# Altium schematic symbol library NG_Passive.SchLib: 52 symbols
Pins are listed as number, name and electrical type; pins without a type are passive.

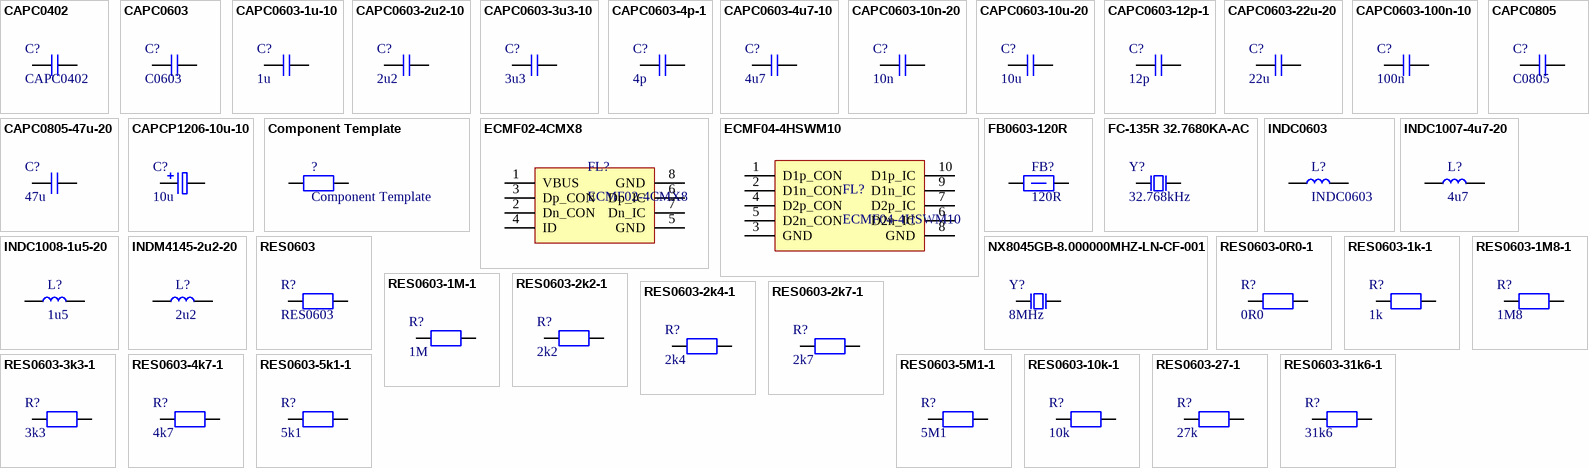
[diagram p0: symbols CAPC0402 to RES0603-31k6-1]

## CAPC0402
designator C?
Ceramic capacitor, VAL?,  VOL?, DIEL?; Checked: Yes; Footprint: 0402; MFR: ?; Supplier: Mouser; SPN: ?; MFRN: ?; Link: *
footprint CAPC0402
pins: 1, 2

## CAPC0603
designator C?, comment C0603
Ceramic capacitor, VAL?,  VOL?, DIEL?; Checked: Yes; Footprint: 0603; MFR: ?; Supplier: Mouser; SPN: ?; MFRN: ?; Link: *
footprint CAPC0603
pins: 1, 2

## CAPC0603-1u-10
designator C?, comment 1u
Ceramic capacitor, 1uF,  50V, X5R; MFR: Murata Electronics; MFRN: GRT188R61H105KE13D; SPN: 81-GRT188R61H105KE3D; Checked: Yes; Footprint: 0603; Supplier: Mouser; Link: https://hr.mouser.com/ProductDetail/Murata-Electronics/GRT188R61H105KE13D?qs=drgMNd%252BkGPNIxxtJByMGCg%3D%3D
footprint CAPC0603
pins: 1, 2

## CAPC0603-2u2-10
designator C?, comment 2u2
Ceramic capacitor, 2.2uF,  25V, X5R; MFR: Samsung Electro-Mechanics; MFRN: CL10A225KA8NNNC; SPN: 187-CL10A225KA8NNNC; Checked: Yes; Footprint: 0603; Supplier: Mouser; Link: https://hr.mouser.com/ProductDetail/Samsung-Electro-Mechanics/CL10A225KA8NNNC?qs=X6jEic%2FHinDB6YiNUmmONA%3D%3D
footprint CAPC0603
pins: 1, 2

## CAPC0603-3u3-10
designator C?, comment 3u3
Ceramic capacitor, 3.3uF,  25V, X5R; MFR: TDK; MFRN: C1608X5R1E335K080AC; SPN: 810-C1608X5R1E335KAC; Checked: Yes; Footprint: 0603; Supplier: Mouser; Link: https://hr.mouser.com/ProductDetail/TDK/C1608X5R1E335K080AC?qs=6JAMGB%252BEdkxFHV26vmpHrw%3D%3D
footprint CAPC0603
pins: 1, 2

## CAPC0603-4p-1
designator C?, comment 4p
Ceramic capacitor, 4pF,  50V, C0G; MFR: Samsung Electro-Mechanics; MFRN: CL10C040CB8NNNC; SPN: 187-CL10C040CB8NNNC; Checked: Yes; Footprint: 0603; Supplier: Mouser; Link: https://hr.mouser.com/ProductDetail/Samsung-Electro-Mechanics/CL10C040CB8NNNC?qs=X6jEic%2FHinCXvSxHicvHqA%3D%3D
footprint CAPC0603
pins: 1, 2

## CAPC0603-4u7-10
designator C?, comment 4u7
Ceramic capacitor, 4.7uF, 25V, X5R; MFR: TDK; MFRN: C1608X5R1E475K080AC; SPN: 810-C1608X5R1E475K; Checked: Yes; Footprint: 0603; Supplier: Mouser; Link: https://hr.mouser.com/ProductDetail/TDK/C1608X5R1E475K080AC?qs=dfay7wIA1uHUGZGvnFtOyQ%3D%3D
footprint CAPC0603
pins: 1, 2

## CAPC0603-10n-20
designator C?, comment 10n
Ceramic capacitor, 10nF,  50V, X7R; MFR: KEMET; MFRN: C0603C103K5RAC7081; SPN: 80-C0603C103K5R7081; Checked: Yes; Footprint: 0603; Supplier: Mouser; Link: https://hr.mouser.com/ProductDetail/KEMET/C0603C103K5RAC7081?qs=sSYV1F9c5cFnAwHdDYKUcw%3D%3D
footprint CAPC0603
pins: 1, 2

## CAPC0603-10u-20
designator C?, comment 10u
Ceramic capacitor, 10uF,  25V, X5R; MFR: TAIYO YUDEN; MFRN: TMK107BBJ106MA-T; SPN: 963-TMK107BBJ106MA-T; Checked: Yes; Footprint: 0603; Supplier: Mouser; Link: https://hr.mouser.com/ProductDetail/TAIYO-YUDEN/TMK107BBJ106MA-T?qs=lkMpTOwszhf2a50BCYsq8A%3D%3D
footprint CAPC0603
pins: 1, 2

## CAPC0603-12p-1
designator C?, comment 12p
Ceramic capacitor, 12pF,  100V, C0G; MFR: Murata Electronics; MFRN: GCM1885C2A120FA16D; SPN: 81-GCM1885C2A120FA6D; Checked: Yes; Footprint: 0603; Supplier: Mouser; Link: https://hr.mouser.com/ProductDetail/Murata-Electronics/GCM1885C2A120FA16D?qs=QzBtWTOodeUaZCEup3XR9g%3D%3D
footprint CAPC0603
pins: 1, 2

## CAPC0603-22u-20
designator C?, comment 22u
Ceramic capacitor, 22uF,  10V, X5R; MFR: Samsung Electro-Mechanics; MFRN: CL10A226MP8NUNE; SPN: 187-CL10A226MP8NUNE; Checked: Yes; Footprint: 0603; Supplier: Mouser; Link: https://hr.mouser.com/ProductDetail/Samsung-Electro-Mechanics/CL10A226MP8NUNE?qs=gRKWieUq2Hb5O0PTfRKzDQ%3D%3D
footprint CAPC0603
pins: 1, 2

## CAPC0603-100n-10
designator C?, comment 100n
Ceramic capacitor, 100nF,  50V, X7R; MFR: KEMET; MFRN: C0603C104K5RACAUTO; SPN: 80-C0603C104K5RAUTO; Checked: Yes; Footprint: 0603; Supplier: Mouser; Link: https://hr.mouser.com/ProductDetail/KEMET/C0603C104K5RACAUTO?qs=8xX%252BF9%252BWV6EZsgKw9G0PqQ%3D%3D
footprint CAPC0603
pins: 1, 2

## CAPC0805
designator C?, comment C0805
Ceramic capacitor, VAL?,  VOL?, DIEL?; Checked: Yes; Footprint: 0805; MFR: ?; Supplier: Mouser; SPN: ?; MFRN: ?; Link: *
footprint CAPC0805
pins: 1, 2

## CAPC0805-47u-20
designator C?, comment 47u
Ceramic capacitor, 47uF,  10V, X5R; MFR: Murata Electronics; MFRN: GRM21BR61A476ME15L; SPN: 81-GRM21BR61A476ME5L; Checked: Yes; Footprint: 0805; Supplier: Mouser; Link: https://hr.mouser.com/ProductDetail/Murata-Electronics/GRM21BR61A476ME15L?qs=hNud%2FORuBR2%2FEB7WUpdltg%3D%3D
footprint CAPC0805
pins: 1, 2

## CAPCP1206-10u-10
designator C?, comment 10u
Tantalum capacitor, 10uF,  10V, 3.8Ohm; MFR: KEMET; MFRN: T491A106K010AT; SPN: 80-T491A106K010; Checked: Yes; Footprint: 1206; Supplier: Mouser; Link: https://hr.mouser.com/ProductDetail/KEMET/T491A106K010AT?qs=VCf6WUQjPgE2CESwzh%252BRVg%3D%3D
footprint CAPCP1206 (Generic description)
pins: 1, 2

## Component Template
designator ?
Generic Description; Checked: No; Footprint: ?; MFR: ?; Supplier: Mouser; SPN: ?; MFRN: ?; Link: *
pins: 1, 2

## ECMF02-4CMX8
designator FL?
Common mode filter with ESD protection for USB 2.0 interface; MFR: STMicroelectronics; SPN: 497-13420-2-ND; Checked: No; Footprint: 8-UFDFN; Supplier: Mouser; MFRN: ECMF02-4CMX8; Link: *
footprint QFN50P115X245X-8 (Quad Flat No-lead, 50 mm pitch, 115 mm W, 245 mm L, 8 leads)
pins: 1 VBUS (power), 2 Dn_CON, 3 Dp_CON, 4 ID, 5 GND (power), 6 Dp_IC, 7 Dn_IC, 8 GND (power)

## ECMF04-4HSWM10
designator FL?
Common mode filter with ESD protection for high speed serial interface; MFR: STMicroelectronics; SPN: 497-14992-2-ND; Checked: No; Footprint: 10-UFDFN; Supplier: Mouser; MFRN: ECMF04-4HSWM10; Link: *
footprint QFN50P135X260X-10 (Quad Flat No-lead, 50 mm pitch, 135 mm W, 260 mm L, 10 leads)
pins: 1 D1p_CON, 2 D1n_CON, 3 GND (power), 4 D2p_CON, 5 D2n_CON, 6 D2n_IC, 7 D2p_IC, 8 GND (power), 9 D1n_IC, 10 D1p_IC

## FB0603-120R
designator FB?, comment 120R
Ferrite bead, 120R@100MHz; MFR: TDK Corporation; MFRN: MMZ1608D121CTDH5; SPN: 445-MMZ1608D121CTDH5TR-ND; Checked: Yes; Footprint: 0603; Supplier: Mouser; Link: https://hr.mouser.com/ProductDetail/TDK/MMZ1608D121CTDH5?qs=w5GL7EWTenmYwq5el8mPmQ%3D%3D
footprint FBC0603
pins: 1, 2

## FC-135R 32.7680KA-AC
designator Y?, comment 32.768kHz
Crystal, 32.768Hz, 9pF, 50kOhms; MFR: Seiko Epson; MFRN: FC-135R 32.7680KA-AC; SPN: 732-5R32.7680KA-AC; Checked: Yes; Footprint: SMD3215-2P; Supplier: Mouser; Link: https://hr.mouser.com/ProductDetail/Epson-Timing/FC-135R-32.7680KA-AC?qs=f9yNj16SXrKSyqlBEaNvJg%3D%3D
footprint XTAL320X150X80 (Generic description)
pins: 1, 2

## INDC0603
designator L?
Inductor chip 0603; Checked: Yes; Footprint: 0603; MFR: ?; Supplier: Mouser; SPN: ?; MFRN: ?; Link: *
pins: 1, 2

## INDC1007-4u7-20
designator L?, comment 4u7
Inductor 4.7uH, 680mA, ±20%, 260mOhm; MFR: TAIYO YUDEN; MFRN: CBC2518T4R7M; SPN: 963-CBC2518T4R7M; Checked: Yes; Footprint: 1008; Supplier: Mouser; Link: https://hr.mouser.com/ProductDetail/TAIYO-YUDEN/CBC2518T4R7M?qs=sGAEpiMZZMv126LJFLh8y8CHgMb6WLnpfdgzSjZMuh8%3D
footprint INDC1007
pins: 1, 2

## INDC1008-1u5-20
designator L?, comment 1u5
Inductor 1.5uH, 3.3A, ±20%, 60mOhm; MFR: TDK; MFRN: TMS252012ALM-1R5MTAA; SPN: 810-TMS252012ALM1R5M; Checked: Yes; Footprint: 1008; Supplier: Mouser; Link: https://hr.mouser.com/ProductDetail/TDK/TMS252012ALM-1R5MTAA?qs=7MVldsJ5UayRLHp7atJZag%3D%3D
footprint INDC1008
pins: 1, 2

## INDM4145-2u2-20
designator L?, comment 2u2
Inductor 2.2uH, 4A, 61mOhm; MFR: Bourns Inc.; MFRN: SRP4020TA-2R2M; SPN: 652-SRP4020CC-2R2M; Checked: Yes; Footprint: 1816; Supplier: Mouser; Link: https://hr.mouser.com/ProductDetail/Bourns/SRP4020CC-2R2M?qs=1Kr7Jg1SGW%2Fzqd%2F%2FaCZ%2Fhg%3D%3D
footprint INDM4145X18
pins: 1, 2

## NX8045GB-8.000000MHZ-LN-CF-001
designator Y?, comment 8MHz
Crystal, 8MHz, 8pF, 200Ohms; MFR: NDK; MFRN: NX8045GB-8.000000MHZ-LN-CF-001; SPN: 344-NX8045GB8MLNCF1; Checked: Yes; Footprint: SMD8045-2P; Supplier: Mouser; Link: https://hr.mouser.com/ProductDetail/NDK/NX8045GB-8.000000MHZ-LN-CF-001?qs=55YtniHzbhBUNifQQes5gA%3D%3D
footprint XTAL800X450X180 (Generic description)
pins: 1, 2

## RES0603
designator R?
Thick film resistor, VAL?, POW?; Checked: Yes; Footprint: 0603; MFR: ?; Supplier: Mouser; SPN: ?; MFRN: ?; Link: *
footprint RESC0603 (Generic description)
pins: 1, 2

## RES0603-0R0-1
designator R?, comment 0R0
Thick film resistor, 0Ohms, 100mW; MFR: YAGEO; MFRN: RC0603FR-070RL; SPN: 603-RC0603FR-070RL; Checked: Yes; Footprint: 0603; Supplier: Mouser; Link: https://hr.mouser.com/ProductDetail/YAGEO/RC0603FR-070RL?qs=0yPvnVz5%2FmpDQv43TwvCfw%3D%3D
footprint RESC0603 (Generic description)
pins: 1, 2

## RES0603-1k-1
designator R?, comment 1k
Thick film resistor, 1k, 100mW; MFR: YAGEO; MFRN: RC0603FR-071KL; SPN: 603-RC0603FR-071KL; Checked: Yes; Footprint: 0603; Supplier: Mouser; Link: https://hr.mouser.com/ProductDetail/YAGEO/RC0603FR-071KL?qs=VU8sRB4EgwApHsk4rF%2F3zg%3D%3D
footprint RESC0603 (Generic description)
pins: 1, 2

## RES0603-1M8-1
designator R?, comment 1M8
Thick film resistor, 1.8MOhms, 100mW; MFR: Vishay / Dale; MFRN: CRCW06031M80FKEAC; SPN: 71-CRCW06031M80FKEAC; Checked: Yes; Footprint: 0603; Supplier: Mouser; Link: https://hr.mouser.com/ProductDetail/Vishay-Dale/CRCW06031M80FKEAC?qs=sGAEpiMZZMtlubZbdhIBIEVnJA25NYWZ%2FYivauIjUrk%3D
footprint RESC0603 (Generic description)
pins: 1, 2

## RES0603-1M-1
designator R?, comment 1M
Thick film resistor, 1MOhms, 100mW; MFR: YAGEO; MFRN: RC0603FR-071ML; SPN: 603-RC0603FR-071ML; Checked: Yes; Footprint: 0603; Supplier: Mouser; Link: https://hr.mouser.com/ProductDetail/YAGEO/RC0603FR-071ML?qs=VU8sRB4EgwDPceeQKB324w%3D%3D
footprint RESC0603 (Generic description)
pins: 1, 2

## RES0603-2k2-1
designator R?, comment 2k2
Thick film resistor, 2.2kOhms, 100mW; MFR: YAGEO; MFRN: RC0603FR-072K2L; SPN: 603-RC0603FR-072K2L; Checked: Yes; Footprint: 0603; Supplier: Mouser; Link: https://hr.mouser.com/ProductDetail/YAGEO/RC0603FR-072K2L?qs=diQw95jMAeOQmNpe2MM%252BPw%3D%3D
footprint RESC0603 (Generic description)
pins: 1, 2

## RES0603-2k4-1
designator R?, comment 2k4
Thick film resistor, 2.4kOhms, 100mW; MFR: YAGEO; MFRN: RC0603FR-072K4L; SPN: 603-RC0603FR-072K4L; Checked: Yes; Footprint: 0603; Supplier: Mouser; Link: https://hr.mouser.com/ProductDetail/YAGEO/RC0603FR-072K4L?qs=0yPvnVz5%2FmrC6p3yyBfpHw%3D%3D
footprint RESC0603 (Generic description)
pins: 1, 2

## RES0603-2k7-1
designator R?, comment 2k7
Thick film resistor, 2.7kOhms, 100mW; MFR: YAGEO; MFRN: RC0603FR-102K7L; SPN: 603-RC0603FR-102K7L; Checked: Yes; Footprint: 0603; Supplier: Mouser; Link: https://hr.mouser.com/ProductDetail/YAGEO/RC0603FR-102K7L?qs=sGAEpiMZZMtlubZbdhIBIL6aF40j1MfhXpbKBRYtUAI%3D
footprint RESC0603 (Generic description)
pins: 1, 2

## RES0603-3k3-1
designator R?, comment 3k3
Thick film resistor, 3.3kOhms, 100mW; MFR: YAGEO; MFRN: AC0603FR-073K3L; SPN: 603-AC0603FR-073K3L; Checked: Yes; Footprint: 0603; Supplier: Mouser; Link: https://hr.mouser.com/ProductDetail/YAGEO/AC0603FR-073K3L?qs=sGAEpiMZZMtlubZbdhIBINBo7nw4llFtjb1EiDJ1uvY%3D
footprint RESC0603 (Generic description)
pins: 1, 2

## RES0603-4k7-1
designator R?, comment 4k7
Thick film resistor, 4.7kOhms, 100mW; MFR: YAGEO; MFRN: RT0603FRE074K7L; SPN: 603-RT0603FRE074K7L; Checked: Yes; Footprint: 0603; Supplier: Mouser; Link: https://hr.mouser.com/ProductDetail/YAGEO/RT0603FRE074K7L?qs=sGAEpiMZZMtlubZbdhIBIE441mth93wmDPmA76MVhFA%3D
footprint RESC0603 (Generic description)
pins: 1, 2

## RES0603-5k1-1
designator R?, comment 5k1
Thick film resistor, 5.1kOhms, 100mW; MFR: YAGEO; MFRN: RC0603FR-075K1L; SPN: 603-RC0603FR-075K1L; Checked: Yes; Footprint: 0603; Supplier: Mouser; Link: https://hr.mouser.com/ProductDetail/YAGEO/RC0603FR-075K1L?qs=gt6vzsuosg2jUUwxnI2PJQ%3D%3D
footprint RESC0603 (Generic description)
pins: 1, 2

## RES0603-5M1-1
designator R?, comment 5M1
Thick film resistor, 5.1MOhms, 100mW; MFR: YAGEO; MFRN: RC0603FR-075M1L; SPN: 603-RC0603FR-075M1L; Checked: Yes; Footprint: 0603; Supplier: Mouser; Link: https://hr.mouser.com/ProductDetail/YAGEO/RC0603FR-075M1L?qs=EiqXWrxQq62YzjenV3bCvA%3D%3D
footprint RESC0603 (Generic description)
pins: 1, 2

## RES0603-10k-1
designator R?, comment 10k
Thick film resistor, 10kOhm, 100mW; MFR: YAGEO; MFRN: RC0603FR-1010KL; SPN: 603-RC0603FR-1010KL; Checked: Yes; Footprint: 0603; Supplier: Mouser; Link: https://hr.mouser.com/ProductDetail/YAGEO/RC0603FR-1010KL?qs=sGAEpiMZZMtlubZbdhIBIHvQf5egq9lvqRHakiGwa0o%3D
footprint RESC0603 (Generic description)
pins: 1, 2

## RES0603-27-1
designator R?, comment 27k
Thick film resistor, 27kOhm, 100mW; MFR: YAGEO; MFRN: RC0603FR-0727KL; SPN: 603-RC0603FR-0727KL; Checked: Yes; Footprint: 0603; Supplier: Mouser; Link: https://hr.mouser.com/ProductDetail/YAGEO/RC0603FR-0727KL?qs=HhmREhdzqomUcJ5okwKG7g%3D%3D
footprint RESC0603 (Generic description)
pins: 1, 2

## RES0603-31k6-1
designator R?, comment 31k6
Thick film resistor, 31.6kOhm, 100mW; MFR: KOA Speer; MFRN: RK73H1JTTDD3162F; SPN: 660-RK73H1JTDD3162F; Checked: Yes; Footprint: 0603; Supplier: Mouser; Link: https://hr.mouser.com/ProductDetail/KOA-Speer/RK73H1JTTDD3162F?qs=sGAEpiMZZMtlubZbdhIBIEH8%252BU9HXMuiz5ZToc53nis%3D
footprint RESC0603 (Generic description)
pins: 1, 2

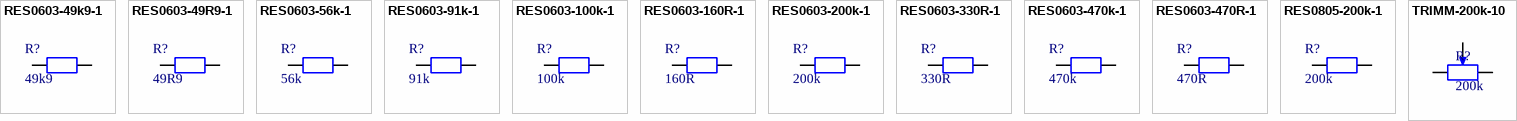
[diagram p1: symbols RES0603-49k9-1 to TRIMM-200k-10]

## RES0603-49k9-1
designator R?, comment 49k9
Thick film resistor, 49.9kOhms, 100mW; MFR: YAGEO; MFRN: RC0603FR-0749K9L; SPN: 603-RC0603FR-0749K9L; Checked: Yes; Footprint: 0603; Supplier: Mouser; Link: https://hr.mouser.com/ProductDetail/YAGEO/RC0603FR-0749K9L?qs=sGAEpiMZZMtlubZbdhIBIItYu4jZFrq85kB0%2FAGdri8%3D
footprint RESC0603 (Generic description)
pins: 1, 2

## RES0603-49R9-1
designator R?, comment 49R9
Thick film resistor, 49.9Ohms, 100mW; MFR: YAGEO; MFRN: RC0603FR-0749R9L; SPN: 603-RC0603FR-0749R9L; Checked: Yes; Footprint: 0603; Supplier: Mouser; Link: https://hr.mouser.com/ProductDetail/YAGEO/RC0603FR-0749R9L?qs=NEN%2FsE%2FLsvNRW8WFDtCPgQ%3D%3D
footprint RESC0603 (Generic description)
pins: 1, 2

## RES0603-56k-1
designator R?, comment 56k
Thick film resistor, 56kOhms, 100mW; MFR: YAGEO; MFRN: RC0603FR-0756KL; SPN: 603-RC0603FR-0756KL; Checked: Yes; Footprint: 0603; Supplier: Mouser; Link: https://hr.mouser.com/ProductDetail/YAGEO/RC0603FR-0756KL?qs=sGAEpiMZZMtlubZbdhIBIItYu4jZFrq85rGJr%252B2Nf%2F8%3D
footprint RESC0603 (Generic description)
pins: 1, 2

## RES0603-91k-1
designator R?, comment 91k
Thick film resistor, 91kOhms, 100mW; MFR: YAGEO; MFRN: RC0603FR-0791KL; SPN: 603-RC0603FR-0791KL; Checked: Yes; Footprint: 0603; Supplier: Mouser; Link: https://hr.mouser.com/ProductDetail/YAGEO/RC0603FR-0791KL?qs=sGAEpiMZZMtlubZbdhIBIHvQf5egq9lvYfsdZ%2FB67WI%3D
footprint RESC0603 (Generic description)
pins: 1, 2

## RES0603-100k-1
designator R?, comment 100k
Thick film resistor, 100kOhms, 100mW; MFR: YAGEO; MFRN: CRCW0603100KFKEA; SPN: 71-CRCW0603-100K-E3; Checked: Yes; Footprint: 0603; Supplier: Mouser; Link: https://hr.mouser.com/ProductDetail/Vishay-Dale/CRCW0603100KFKEA?qs=6dqgS%252BKntICWHMMdIzt5%2FQ%3D%3D
footprint RESC0603 (Generic description)
pins: 1, 2

## RES0603-160R-1
designator R?, comment 160R
Thick film resistor, 160Ohms, 100mW; MFR: Panasonic; MFRN: ERJ-3EKF1600V; SPN: 667-ERJ-3EKF1600V; Checked: Yes; Footprint: 0603; Supplier: Mouser; Link: https://hr.mouser.com/ProductDetail/Panasonic/ERJ-3EKF1600V?qs=iBwFsHVUAOdeFCQ863k5IQ%3D%3D
footprint RESC0603 (Generic description)
pins: 1, 2

## RES0603-200k-1
designator R?, comment 200k
Thick film resistor, 200kOhms, 100mW; MFR: YAGEO; MFRN: RC0603FR-07200KL; SPN: 603-RC0603FR-07200KL; Checked: Yes; Footprint: 0603; Supplier: Mouser; Link: https://hr.mouser.com/ProductDetail/YAGEO/RC0603FR-07200KL?qs=sGAEpiMZZMtlubZbdhIBIPpBVm91En7n1EStA3IWCIA%3D
footprint RESC0603 (Generic description)
pins: 1, 2

## RES0603-330R-1
designator R?, comment 330R
Thick film resistor, 330Ohms, 100mW; MFR: YAGEO; MFRN: RT0603FRE13330RL; SPN: 603-RT0603FRE13330RL; Checked: Yes; Footprint: 0603; Supplier: Mouser; Link: https://hr.mouser.com/ProductDetail/YAGEO/RT0603FRE13330RL?qs=sGAEpiMZZMtlubZbdhIBIMaxnMKvEBNdDzkYru5tzsM%3D
footprint RESC0603 (Generic description)
pins: 1, 2

## RES0603-470k-1
designator R?, comment 470k
Thick film resistor, 470kOhms, 100mW; MFR: YAGEO; MFRN: RC0603FR-07470KL; SPN: 603-RC0603FR-07470KL; Checked: Yes; Footprint: 0603; Supplier: Mouser; Link: https://hr.mouser.com/ProductDetail/YAGEO/RC0603FR-07470KL?qs=gt6vzsuosg0YdkYcPnlfQQ%3D%3D
footprint RESC0603 (Generic description)
pins: 1, 2

## RES0603-470R-1
designator R?, comment 470R
Thick film resistor, 470R, 100mW; MFR: YAGEO; MFRN: RC0603FR-07470RL; SPN: 603-RC0603FR-07470RL; Checked: Yes; Footprint: 0603; Supplier: Mouser; Link: https://hr.mouser.com/ProductDetail/YAGEO/RC0603FR-07470RL?qs=gt6vzsuosg2Xv5elfMBXPA%3D%3D
footprint RESC0603 (Generic description)
pins: 1, 2

## RES0805-200k-1
designator R?, comment 200k
Thick film resistor, 200k, 125mW; MFR: YAGEO; MFRN: RC0805FR-07200KL; SPN: 603-RC0805FR-07200KL; Checked: No; Footprint: 0805; Supplier: Mouser; Link: https://hr.mouser.com/ProductDetail/YAGEO/RC0805FR-07200KL?qs=sGAEpiMZZMtlubZbdhIBIBEZimkhVqQ42qt0Z2hzgyc%3D
footprint RESC0805 (Generic description)
pins: 1, 2

## TRIMM-200k-10
designator R?, comment 200k
Trimmer Resistor, 200kOhms, 10%, 500mW; MFR: Bourns; MFRN: 3362P-1-204LF; SPN: 652-3362P-1-204LF; Checked: No; Footprint: TH; Supplier: Mouser; Link: https://hr.mouser.com/ProductDetail/Bourns/3362P-1-204LF?qs=sGAEpiMZZMtC25l1F4XBU7ILcYIAy2oMYayCW7F%2FEPY%3D
footprint TRIM_3362P-1-204LF (3362P-1-204LF Trimmer)
pins: 1, 2, 3